# Altium footprint library CRYSTAL.PcbLib: 1 footprints
Each footprint in its own frame and in the unit in brackets; x right, y up, seen from the top. Pads: shape width x height; smd on the part's side, far side on the other; paste and mask are expansions set on the pad; w line width, h text height; cw(c..) or ccw(c..) is an arc to the next point about the centre after c.
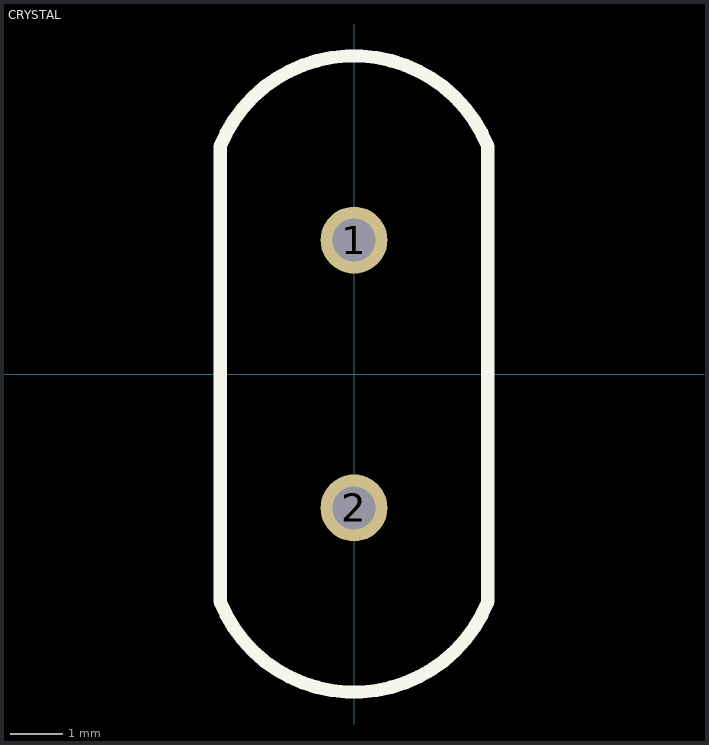
[diagram p0: the footprint, top view; thin cyan lines are the x and y axes]

## CRYSTAL [mil] "CRYSTAL"
pads (2):
  round 50 hole 32: 1(0,100) 2(0,-100)
Top Overlay:
  lines w10: -100,-170 ccw(c0,-130) 100,-170 100,170 ccw(c0,130) -100,170 -100,-170